# Altium footprint library XC7K160T.PcbLib: 72 footprints (part 5 of 5)
Each footprint in its own frame and in the unit in brackets; x right, y up, seen from the top. Pads: shape width x height; smd on the part's side, far side on the other; paste and mask are expansions set on the pad; w line width, h text height; cw(c..) or ccw(c..) is an arc to the next point about the centre after c.
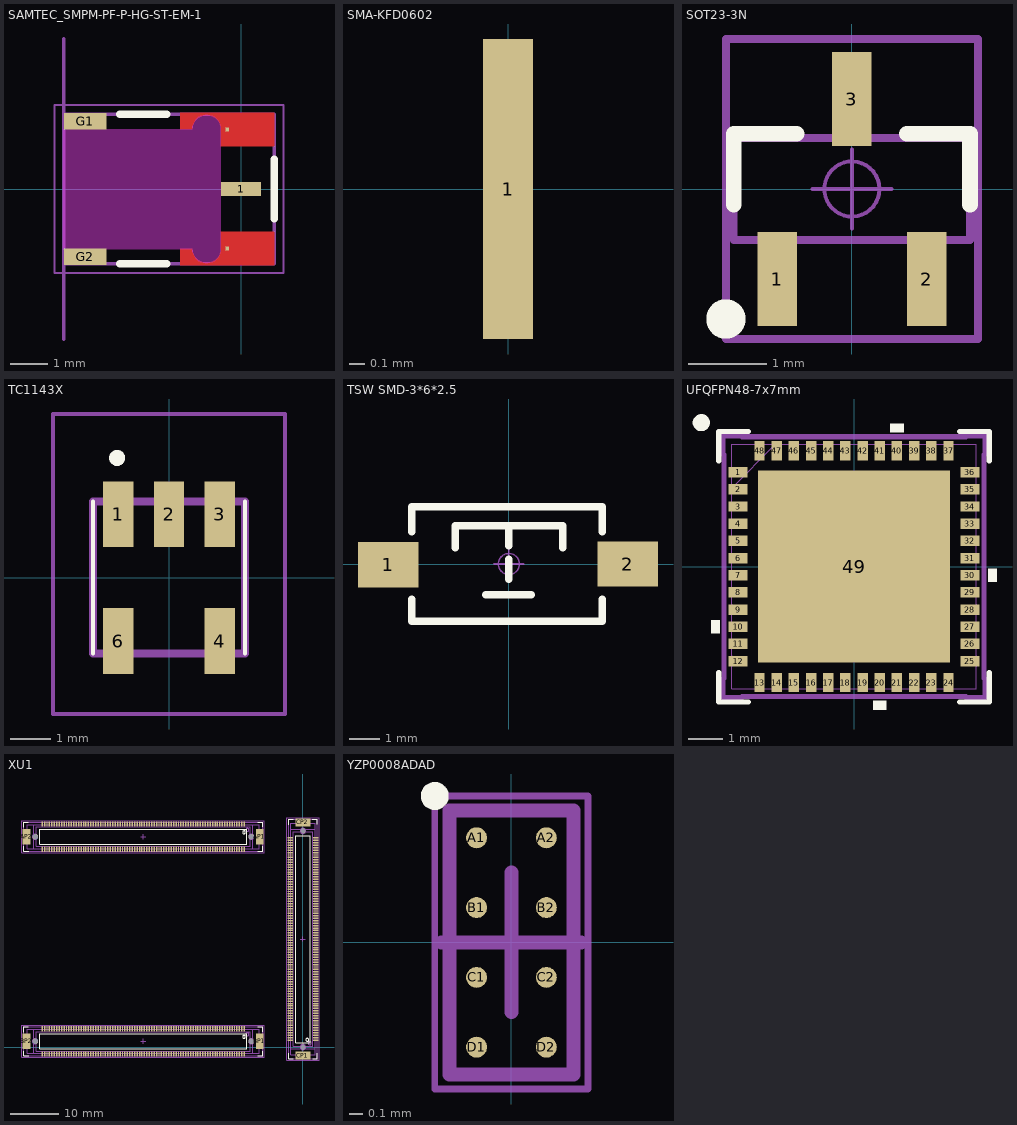
[diagram p4: the footprints below, top view; thin cyan lines are the x and y axes]

## SAMTEC_SMPM-PF-P-HG-ST-EM-1 [mm]
pads (5):
  rect 1.07x0.38 smd: 1(0,0)
  rect 1.14x0.44 smd: G1(-4.155,1.81) G2(-4.155,-1.81)
  rect 0.1x0.1 smd paste-1 mask+0: G3(-0.37,1.587) G4(-0.37,-1.587)
Top Layer:
  region: 0.885,-2.03 -1.625,-2.03 -1.625,-1.59 -1.295,-1.59 -1.294,-1.61 -1.293,-1.63 -1.29,-1.649 -1.287,-1.669 -1.282,-1.688 -1.276,-1.707 -1.27,-1.726 -1.262,-1.745 -1.254,-1.763 -1.244,-1.78 -1.234,-1.797 -1.222,-1.813 -1.21,-1.829 -1.197,-1.844 -1.184,-1.859 -1.169,-1.872 -1.154,-1.885 -1.138,-1.897 -1.122,-1.909 -1.105,-1.919 -1.088,-1.929 -1.07,-1.937 -1.051,-1.945 -1.032,-1.951 -1.013,-1.957 -0.994,-1.962 -0.974,-1.965 -0.955,-1.968 -0.935,-1.969 -0.915,-1.97 -0.895,-1.969 -0.875,-1.968 -0.856,-1.965 -0.836,-1.962 -0.817,-1.957 -0.798,-1.951 -0.779,-1.945 -0.76,-1.937 -0.742,-1.929 -0.725,-1.919 -0.708,-1.909 -0.692,-1.897 -0.676,-1.885 -0.661,-1.872 -0.646,-1.859 -0.633,-1.844 -0.62,-1.829 -0.608,-1.813 -0.596,-1.797 -0.586,-1.78 -0.576,-1.763 -0.568,-1.745 -0.56,-1.726 -0.554,-1.707 -0.548,-1.688 -0.543,-1.669 -0.54,-1.649 -0.537,-1.63 -0.536,-1.61 -0.535,-1.59 -0.535,-1.145 0.885,-1.145
  region: 0.885,1.145 -0.535,1.145 -0.535,1.59 -0.536,1.61 -0.537,1.63 -0.54,1.649 -0.543,1.669 -0.548,1.688 -0.554,1.707 -0.56,1.726 -0.568,1.745 -0.576,1.763 -0.586,1.78 -0.596,1.797 -0.608,1.813 -0.62,1.829 -0.633,1.844 -0.646,1.859 -0.661,1.872 -0.676,1.885 -0.692,1.897 -0.708,1.909 -0.725,1.919 -0.742,1.929 -0.76,1.937 -0.779,1.945 -0.798,1.951 -0.817,1.957 -0.836,1.962 -0.856,1.965 -0.875,1.968 -0.895,1.969 -0.915,1.97 -0.935,1.969 -0.955,1.968 -0.974,1.965 -0.994,1.962 -1.013,1.957 -1.032,1.951 -1.051,1.945 -1.07,1.937 -1.088,1.929 -1.105,1.919 -1.122,1.909 -1.138,1.897 -1.154,1.885 -1.169,1.872 -1.184,1.859 -1.197,1.844 -1.21,1.829 -1.222,1.813 -1.234,1.797 -1.244,1.78 -1.254,1.763 -1.262,1.745 -1.27,1.726 -1.276,1.707 -1.282,1.688 -1.287,1.669 -1.29,1.649 -1.293,1.63 -1.294,1.61 -1.295,1.59 -1.625,1.59 -1.625,2.03 0.885,2.03
Top Overlay:
  lines w0.2: -3.235,-1.995 -1.975,-1.995 ; -3.235,1.995 -1.975,1.995 ; 0.885,-0.795 0.885,0.795
Top Paste:
  region: 0.885,-2.03 -1.625,-2.03 -1.625,-1.59 -1.295,-1.59 -1.294,-1.61 -1.293,-1.63 -1.29,-1.649 -1.287,-1.669 -1.282,-1.688 -1.276,-1.707 -1.27,-1.726 -1.262,-1.745 -1.254,-1.763 -1.244,-1.78 -1.234,-1.797 -1.222,-1.813 -1.21,-1.829 -1.197,-1.844 -1.184,-1.859 -1.169,-1.872 -1.154,-1.885 -1.138,-1.897 -1.122,-1.909 -1.105,-1.919 -1.088,-1.929 -1.07,-1.937 -1.051,-1.945 -1.032,-1.951 -1.013,-1.957 -0.994,-1.962 -0.974,-1.965 -0.955,-1.968 -0.935,-1.969 -0.915,-1.97 -0.895,-1.969 -0.875,-1.968 -0.856,-1.965 -0.836,-1.962 -0.817,-1.957 -0.798,-1.951 -0.779,-1.945 -0.76,-1.937 -0.742,-1.929 -0.725,-1.919 -0.708,-1.909 -0.692,-1.897 -0.676,-1.885 -0.661,-1.872 -0.646,-1.859 -0.633,-1.844 -0.62,-1.829 -0.608,-1.813 -0.596,-1.797 -0.586,-1.78 -0.576,-1.763 -0.568,-1.745 -0.56,-1.726 -0.554,-1.707 -0.548,-1.688 -0.543,-1.669 -0.54,-1.649 -0.537,-1.63 -0.536,-1.61 -0.535,-1.59 -0.535,-1.145 0.885,-1.145
  region: 0.885,1.145 -0.535,1.145 -0.535,1.59 -0.536,1.61 -0.537,1.63 -0.54,1.649 -0.543,1.669 -0.548,1.688 -0.554,1.707 -0.56,1.726 -0.568,1.745 -0.576,1.763 -0.586,1.78 -0.596,1.797 -0.608,1.813 -0.62,1.829 -0.633,1.844 -0.646,1.859 -0.661,1.872 -0.676,1.885 -0.692,1.897 -0.708,1.909 -0.725,1.919 -0.742,1.929 -0.76,1.937 -0.779,1.945 -0.798,1.951 -0.817,1.957 -0.836,1.962 -0.856,1.965 -0.875,1.968 -0.895,1.969 -0.915,1.97 -0.935,1.969 -0.955,1.968 -0.974,1.965 -0.994,1.962 -1.013,1.957 -1.032,1.951 -1.051,1.945 -1.07,1.937 -1.088,1.929 -1.105,1.919 -1.122,1.909 -1.138,1.897 -1.154,1.885 -1.169,1.872 -1.184,1.859 -1.197,1.844 -1.21,1.829 -1.222,1.813 -1.234,1.797 -1.244,1.78 -1.254,1.763 -1.262,1.745 -1.27,1.726 -1.276,1.707 -1.282,1.688 -1.287,1.669 -1.29,1.649 -1.293,1.63 -1.294,1.61 -1.295,1.59 -1.625,1.59 -1.625,2.03 0.885,2.03
Top Solder:
  region: 0.985,-2.13 -1.725,-2.13 -1.725,-1.59 -1.295,-1.59 -1.294,-1.61 -1.293,-1.63 -1.29,-1.649 -1.287,-1.669 -1.282,-1.688 -1.276,-1.707 -1.27,-1.726 -1.262,-1.745 -1.254,-1.763 -1.244,-1.78 -1.234,-1.797 -1.222,-1.813 -1.21,-1.829 -1.197,-1.844 -1.184,-1.859 -1.169,-1.872 -1.154,-1.885 -1.138,-1.897 -1.122,-1.909 -1.105,-1.919 -1.088,-1.929 -1.07,-1.937 -1.051,-1.945 -1.032,-1.951 -1.013,-1.957 -0.994,-1.962 -0.974,-1.965 -0.955,-1.968 -0.935,-1.969 -0.915,-1.97 -0.895,-1.969 -0.875,-1.968 -0.856,-1.965 -0.836,-1.962 -0.817,-1.957 -0.798,-1.951 -0.779,-1.945 -0.76,-1.937 -0.742,-1.929 -0.725,-1.919 -0.708,-1.909 -0.692,-1.897 -0.676,-1.885 -0.661,-1.872 -0.646,-1.859 -0.633,-1.844 -0.62,-1.829 -0.608,-1.813 -0.596,-1.797 -0.586,-1.78 -0.576,-1.763 -0.568,-1.745 -0.56,-1.726 -0.554,-1.707 -0.548,-1.688 -0.543,-1.669 -0.54,-1.649 -0.537,-1.63 -0.536,-1.61 -0.535,-1.59 -0.535,-1.045 0.985,-1.045
  region: 0.985,1.045 -0.535,1.045 -0.535,1.59 -0.536,1.61 -0.537,1.63 -0.54,1.649 -0.543,1.669 -0.548,1.688 -0.554,1.707 -0.56,1.726 -0.568,1.745 -0.576,1.763 -0.586,1.78 -0.596,1.797 -0.608,1.813 -0.62,1.829 -0.633,1.844 -0.646,1.859 -0.661,1.872 -0.676,1.885 -0.692,1.897 -0.708,1.909 -0.725,1.919 -0.742,1.929 -0.76,1.937 -0.779,1.945 -0.798,1.951 -0.817,1.957 -0.836,1.962 -0.856,1.965 -0.875,1.968 -0.895,1.969 -0.915,1.97 -0.935,1.969 -0.955,1.968 -0.974,1.965 -0.994,1.962 -1.013,1.957 -1.032,1.951 -1.051,1.945 -1.07,1.937 -1.088,1.929 -1.105,1.919 -1.122,1.909 -1.138,1.897 -1.154,1.885 -1.169,1.872 -1.184,1.859 -1.197,1.844 -1.21,1.829 -1.222,1.813 -1.234,1.797 -1.244,1.78 -1.254,1.763 -1.262,1.745 -1.27,1.726 -1.276,1.707 -1.282,1.688 -1.287,1.669 -1.29,1.649 -1.293,1.63 -1.294,1.61 -1.295,1.59 -1.725,1.59 -1.725,2.13 0.985,2.13
Keep-Out Layer:
  board cut-out: -4.725,-1.59 -4.725,1.59 -1.295,1.59 -1.295,1.666 -1.237,1.805 -1.13,1.912 -0.991,1.97 -0.839,1.97 -0.7,1.912 -0.593,1.805 -0.535,1.666 -0.535,1.59 -0.535,-1.59 -0.535,-1.666 -0.593,-1.805 -0.7,-1.912 -0.839,-1.97 -0.991,-1.97 -1.13,-1.912 -1.237,-1.805 -1.295,-1.666 -1.295,-1.59
Keep-Out Layer:
  lines w0: -4.725,-1.59 -1.295,-1.59 ccw(c-0.915,-1.59) -0.535,-1.59 -0.535,1.59 ccw(c-0.915,1.59) -1.295,1.59 -4.725,1.59 -4.725,-1.59
Mechanical 13:
  lines w0.1: -4.725,-4 -4.725,-1.995 ; -4.725,4 -4.725,1.995 ; -4.725,-1.995 0.885,-1.995 0.885,1.995 -4.725,1.995 ; -4.725,-1.995 -4.725,1.995
Mechanical 15:
  lines w0.05: -4.975,-2.245 -4.975,2.245 1.135,2.245 1.135,-2.245 -4.975,-2.245
3D body "SMPM-PF-P-HG-ST-EM-1.stp": height 1.74, standoff -1.44, extent -4.728,-1.994 0.885,1.994

## SMA-KFD0602 [mm]
pads (1):
  rect 0.33x2 smd paste+0 mask+0: 1(0,0)

## SOT23-3N [mm]
pads (3):
  rect 0.5x1.2 smd: 1(-0.95,-1.143) 2(0.95,-1.143) 3(0,1.143)
Top Overlay:
  circle w0.25: c-1.6,-1.651 r0.125
  lines w0.2: -1.501,-0.2 -1.501,0.7 -0.701,0.7 ; 0.699,0.7 1.499,0.7 1.499,-0.2
Mechanical 13:
  lines w0.1: -1.5,-0.65 -1.5,0.65 1.5,0.65 1.5,-0.65 -1.5,-0.65
Mechanical 15:
  circle w0.05: c0,0 r0.35
  lines w0.05: -0.5,0 0.5,0 ; 0,-0.5 0,0.5
  lines w0.1: -1.6,-1.905 -1.6,1.905 1.6,1.905 1.6,-1.905 -1.6,-1.905
3D body "SOT23-3.STEP": height 1.05, standoff 0, extent -1.5,-1.2 1.5,1.2

## TC1143X [mm]
pads (5):
  rect 0.76x1.65 smd: 1(-1.27,1.59) 2(0,1.59) 3(1.27,1.59) 4(1.27,-1.59) 6(-1.27,-1.59)
Top Overlay:
  lines w0.1: -1.905,-1.905 -1.905,1.905 ; 1.905,-1.905 1.905,1.905
  lines w0.2: -1.4,3 ccw(c-1.3,3) -1.2,3 ccw(c-1.3,3) -1.4,3
Mechanical 13:
  lines w0.2: -1.905,-1.905 1.905,-1.905 1.905,1.905 -1.905,1.905 -1.905,-1.905
Mechanical 15:
  lines w0.1: -2.905,-3.415 2.905,-3.415 2.905,4.1 -2.905,4.1 -2.905,-3.415
3D body "TC1-1-43X+.stp": height 4.16, standoff 0, extent -1.905,-2.339 1.905,2.339

## TSW SMD-3*6*2.5 [mm]
pads (2):
  rect 2x1.5 smd: 1(-3.996,-0.02) 2(3.937,0)
Top Overlay:
  lines w0.254: -3.212,-1.168 -3.212,-1.9 3.088,-1.9 3.088,-1.168 ; -3.212,1.067 -3.212,1.9 3.088,1.9 3.088,1.067 ; -1.778,0.533 -1.778,1.27 1.778,1.27 1.778,0.533 ; -0.762,-1.016 0.737,-1.016 ; 0,-0.508 0,0.152 ; 0,0.61 0,1.27
Mechanical 15:
  circle w0.05: c0,0 r0.35
  lines w0.05: -0.5,0 0.5,0 ; 0,-0.5 0,0.5
3D body "TSW SMD-3x6x2.5.STEP": height 2.59, standoff -0.03, extent -4,-1.877 4,1.623

## UFQFPN48-7x7mm [mil]
pads (49):
  rect 22x12 smd: 1(-132.87,108.3) 2(-132.87,88.61) 3(-132.87,68.92) 4(-132.87,49.23) 5(-132.87,29.54) 6(-132.87,9.85) 7(-132.87,-9.85) 8(-132.87,-29.54) 9(-132.87,-49.23) 10(-132.87,-68.92) 11(-132.87,-88.61) 12(-132.87,-108.3) 25(132.87,-108.3) 26(132.87,-88.61) 27(132.87,-68.92) 28(132.87,-49.23) 29(132.87,-29.54) 30(132.87,-9.85) 31(132.87,9.85) 32(132.87,29.54) 33(132.87,49.23) 34(132.87,68.92) 35(132.87,88.6) 36(132.87,108.3)
  rect 12x22 smd: 13(-108.3,-132.87) 14(-88.6,-132.87) 15(-68.92,-132.87) 16(-49.23,-132.87) 17(-29.54,-132.87) 18(-9.85,-132.87) 19(9.85,-132.87) 20(29.54,-132.87) 21(49.23,-132.87) 22(68.92,-132.87) 23(88.61,-132.87) 24(108.3,-132.87) 37(108.3,132.87) 38(88.61,132.87) 39(68.92,132.87) 40(49.23,132.87) 41(29.54,132.87) 42(9.85,132.87) 43(-9.85,132.87) 44(-29.54,132.87) 45(-49.23,132.87) 46(-68.92,132.87) 47(-88.61,132.87) 48(-108.3,132.87)
  rect 220x220 smd paste-110: 49(0,0)
Top Overlay:
  circle w9.84: c-175,165 r4.92
  region: -153.87,-61.42 -163.87,-61.42 -163.87,-76.41 -153.87,-76.41
  region: 37.03,-153.87 22.03,-153.87 22.04,-163.87 37.04,-163.87
  region: 153.87,-2.34 163.87,-2.34 163.87,-17.34 153.87,-17.34
  region: 56.73,153.87 41.73,153.87 41.73,163.87 56.73,163.87
  lines w6: -155,-121.21 -155,-155 -121.21,-155 ; -155,121.21 -155,155 -121.21,155 ; 121.21,-155 155,-155 155,-121.21 ; 121.21,155 155,155 155,121.21
Top Paste:
  drawing of 64 lines, arcs and shapes, not listed
Top Solder:
  drawing of 48 lines, arcs and shapes, not listed
Mechanical 13:
  lines w1: -140,90 -90,140 ; -140,-140 140,-140 140,140 -140,140 -140,-140 ; -140,-114.29 -140,-102.29 -140,-114.29 ; -140,-94.61 -140,-82.6 -140,-94.61 ; -140,-74.92 -140,-62.91 -140,-74.92 ; -140,-55.23 -140,-43.22 -140,-55.23 ; -140,-35.53 -140,-23.53 -140,-35.53 ; -140,-15.85 -140,-3.85 -140,-15.85 ; -140,3.84 -140,15.85 -140,3.84 ; -140,23.54 -140,35.53 -140,23.54 ; -140,43.22 -140,55.23 -140,43.22 ; -140,62.91 -140,74.92 -140,62.91 ; -140,82.61 -140,94.6 -140,82.61 ; -140,102.29 -140,114.3 -140,102.29 ; -114.3,-140 -102.29,-140 -114.3,-140 ; -114.3,140 -102.29,140 -114.3,140 ; -94.6,-140 -82.61,-140 -94.6,-140 ; -94.6,140 -82.61,140 -94.6,140 ; -74.92,-140 -62.91,-140 -74.92,-140 ; -74.92,140 -62.91,140 -74.92,140 ; -55.23,-140 -43.22,-140 -55.23,-140 ; -55.23,140 -43.22,140 -55.23,140 ; -35.53,-140 -23.54,-140 -35.53,-140 ; -35.53,140 -23.54,140 -35.53,140 ; -15.85,-140 -3.85,-140 -15.85,-140 ; -15.85,140 -3.85,140 -15.85,140 ; 3.85,-140 15.85,-140 3.85,-140 ; 3.85,140 15.85,140 3.85,140 ; 23.54,-140 35.53,-140 23.54,-140 ; 23.54,140 35.53,140 23.54,140 ; 43.22,-140 55.23,-140 43.22,-140 ; 43.22,140 55.23,140 43.22,140 ; 62.91,-140 74.92,-140 62.91,-140 ; 62.91,140 74.92,140 62.91,140 ; 82.61,-140 94.61,-140 82.61,-140 ; 82.61,140 94.61,140 82.61,140 ; 102.29,-140 114.3,-140 102.29,-140 ; 102.29,140 114.3,140 102.29,140 ; 140,-114.29 140,-102.29 140,-114.29 ; 140,-94.61 140,-82.6 140,-94.61 ; 140,-74.92 140,-62.91 140,-74.92 ; 140,-55.23 140,-43.22 140,-55.23 ; 140,-35.53 140,-23.53 140,-35.53 ; 140,-15.85 140,-3.85 140,-15.85 ; 140,3.84 140,15.85 140,3.84 ; 140,23.54 140,35.53 140,23.54 ; 140,43.22 140,55.23 140,43.22 ; 140,62.91 140,74.92 140,62.91 ; 140,82.61 140,94.6 140,82.61 ; 140,102.29 140,114.3 140,102.29
  text "*" at -124.37,93.14 h50
Mechanical 15:
  lines w6: -150,-150 -150,-128.3 -148.87,-128.3 -148.87,128.29 -150,128.29 -150,150 -128.29,150 -128.29,148.87 128.3,148.87 128.3,150 150,150 150,128.29 148.87,128.29 148.87,-128.3 150,-128.3 150,-150 128.29,-150 128.29,-148.87 -128.29,-148.87 -128.29,-150 -150,-150
3D body: height 35.43, standoff 0, extent -137.8,-137.8 137.8,137.8

## XU1 [mm]
pads (516):
  rect 0.3x1.1 smd paste+0.02: A1(-12.05,45.8) A2(-12.05,40.6) A3(-12.55,45.8) A4(-12.55,40.6) A5(-13.05,45.8) A6(-13.05,40.6) A7(-13.55,45.8) A8(-13.55,40.6) A9(-14.05,45.8) A10(-14.05,40.6) A11(-14.55,45.8) A12(-14.55,40.6) A13(-15.05,45.8) A14(-15.05,40.6) A15(-15.55,45.8) A16(-15.55,40.6) A17(-16.05,45.8) A18(-16.05,40.6) A19(-16.55,45.8) A20(-16.55,40.6) A21(-17.05,45.8) A22(-17.05,40.6) A23(-17.55,45.8) A24(-17.55,40.6) A25(-18.05,45.8) A26(-18.05,40.6) A27(-18.55,45.8) A28(-18.55,40.6) A29(-19.05,45.8) A30(-19.05,40.6) A31(-19.55,45.8) A32(-19.55,40.6) A33(-20.05,45.8) A34(-20.05,40.6) A35(-20.55,45.8) A36(-20.55,40.6) A37(-21.05,45.8) A38(-21.05,40.6) A39(-21.55,45.8) A40(-21.55,40.6) A41(-22.05,45.8) A42(-22.05,40.6) A43(-22.55,45.8) A44(-22.55,40.6) A45(-23.05,45.8) A46(-23.05,40.6) A47(-23.55,45.8) A48(-23.55,40.6) A49(-24.05,45.8) A50(-24.05,40.6) A51(-24.55,45.8) A52(-24.55,40.6) A53(-25.05,45.8) A54(-25.05,40.6) A55(-25.55,45.8) A56(-25.55,40.6) A57(-26.05,45.8) A58(-26.05,40.6) A59(-26.55,45.8) A60(-26.55,40.6) A61(-27.05,45.8) A62(-27.05,40.6) A63(-27.55,45.8) A64(-27.55,40.6) A65(-28.05,45.8) A66(-28.05,40.6) A67(-28.55,45.8) A68(-28.55,40.6) A69(-29.05,45.8) A70(-29.05,40.6) A71(-29.55,45.8) A72(-29.55,40.6) A73(-30.05,45.8) A74(-30.05,40.6) A75(-30.55,45.8) A76(-30.55,40.6) A77(-31.05,45.8) A78(-31.05,40.6) A79(-31.55,45.8) A80(-31.55,40.6) A81(-32.05,45.8) A82(-32.05,40.6) A83(-32.55,45.8) A84(-32.55,40.6) A85(-33.05,45.8) A86(-33.05,40.6) A87(-33.55,45.8) A88(-33.55,40.6) A89(-34.05,45.8) A90(-34.05,40.6) A91(-34.55,45.8) A92(-34.55,40.6) A93(-35.05,45.8) A94(-35.05,40.6) A95(-35.55,45.8) A96(-35.55,40.6) A97(-36.05,45.8) A98(-36.05,40.6) A99(-36.55,45.8) A100(-36.55,40.6) A101(-37.05,45.8) A102(-37.05,40.6) A103(-37.55,45.8) A104(-37.55,40.6) A105(-38.05,45.8) A106(-38.05,40.6) A107(-38.55,45.8) A108(-38.55,40.6) A109(-39.05,45.8) A110(-39.05,40.6) A111(-39.55,45.8) A112(-39.55,40.6) A113(-40.05,45.8) A114(-40.05,40.6) A115(-40.55,45.8) A116(-40.55,40.6) A117(-41.05,45.8) A118(-41.05,40.6) A119(-41.55,45.8) A120(-41.55,40.6) A121(-42.05,45.8) A122(-42.05,40.6) A123(-42.55,45.8) A124(-42.55,40.6) A125(-43.05,45.8) A126(-43.05,40.6) A127(-43.55,45.8) A128(-43.55,40.6) A129(-44.05,45.8) A130(-44.05,40.6) A131(-44.55,45.8) A132(-44.55,40.6) A133(-45.05,45.8) A134(-45.05,40.6) A135(-45.55,45.8) A136(-45.55,40.6) A137(-46.05,45.8) A138(-46.05,40.6) A139(-46.55,45.8) A140(-46.55,40.6) A141(-47.05,45.8) A142(-47.05,40.6) A143(-47.55,45.8) A144(-47.55,40.6) A145(-48.05,45.8) A146(-48.05,40.6) A147(-48.55,45.8) A148(-48.55,40.6) A149(-49.05,45.8) A150(-49.05,40.6) A151(-49.55,45.8) A152(-49.55,40.6) A153(-50.05,45.8) A154(-50.05,40.6) A155(-50.55,45.8) A156(-50.55,40.6) A157(-51.05,45.8) A158(-51.05,40.6) A159(-51.55,45.8) A160(-51.55,40.6) A161(-52.05,45.8) A162(-52.05,40.6) A163(-52.55,45.8) A164(-52.55,40.6) A165(-53.05,45.8) A166(-53.05,40.6) A167(-53.55,45.8) A168(-53.55,40.6) B1(-12.05,3.8) B2(-12.05,-1.4) B3(-12.55,3.8) B4(-12.55,-1.4) B5(-13.05,3.8) B6(-13.05,-1.4) B7(-13.55,3.8) B8(-13.55,-1.4) B9(-14.05,3.8) B10(-14.05,-1.4) B11(-14.55,3.8) B12(-14.55,-1.4) B13(-15.05,3.8) B14(-15.05,-1.4) B15(-15.55,3.8) B16(-15.55,-1.4) B17(-16.05,3.8) B18(-16.05,-1.4) B19(-16.55,3.8) B20(-16.55,-1.4) B21(-17.05,3.8) B22(-17.05,-1.4) B23(-17.55,3.8) B24(-17.55,-1.4) B25(-18.05,3.8) B26(-18.05,-1.4) B27(-18.55,3.8) B28(-18.55,-1.4) B29(-19.05,3.8) B30(-19.05,-1.4) B31(-19.55,3.8) B32(-19.55,-1.4) B33(-20.05,3.8) B34(-20.05,-1.4) B35(-20.55,3.8) B36(-20.55,-1.4) B37(-21.05,3.8) B38(-21.05,-1.4) B39(-21.55,3.8) B40(-21.55,-1.4) B41(-22.05,3.8) B42(-22.05,-1.4) B43(-22.55,3.8) B44(-22.55,-1.4) B45(-23.05,3.8) B46(-23.05,-1.4) B47(-23.55,3.8) B48(-23.55,-1.4) B49(-24.05,3.8) B50(-24.05,-1.4) B51(-24.55,3.8) B52(-24.55,-1.4) B53(-25.05,3.8) B54(-25.05,-1.4) B55(-25.55,3.8) B56(-25.55,-1.4) B57(-26.05,3.8) B58(-26.05,-1.4) B59(-26.55,3.8) B60(-26.55,-1.4) B61(-27.05,3.8) B62(-27.05,-1.4) B63(-27.55,3.8) B64(-27.55,-1.4) B65(-28.05,3.8) B66(-28.05,-1.4) B67(-28.55,3.8) B68(-28.55,-1.4) B69(-29.05,3.8) B70(-29.05,-1.4) B71(-29.55,3.8) B72(-29.55,-1.4) B73(-30.05,3.8) B74(-30.05,-1.4) B75(-30.55,3.8) B76(-30.55,-1.4) B77(-31.05,3.8) B78(-31.05,-1.4) B79(-31.55,3.8) B80(-31.55,-1.4) B81(-32.05,3.8) B82(-32.05,-1.4) B83(-32.55,3.8) B84(-32.55,-1.4) B85(-33.05,3.8) B86(-33.05,-1.4) B87(-33.55,3.8) B88(-33.55,-1.4) B89(-34.05,3.8) B90(-34.05,-1.4) B91(-34.55,3.8) B92(-34.55,-1.4) B93(-35.05,3.8) B94(-35.05,-1.4) B95(-35.55,3.8) B96(-35.55,-1.4) B97(-36.05,3.8) B98(-36.05,-1.4) B99(-36.55,3.8) B100(-36.55,-1.4) B101(-37.05,3.8) B102(-37.05,-1.4) B103(-37.55,3.8) B104(-37.55,-1.4) B105(-38.05,3.8) B106(-38.05,-1.4) B107(-38.55,3.8) B108(-38.55,-1.4) B109(-39.05,3.8) B110(-39.05,-1.4) B111(-39.55,3.8) B112(-39.55,-1.4) B113(-40.05,3.8) B114(-40.05,-1.4) B115(-40.55,3.8) B116(-40.55,-1.4) B117(-41.05,3.8) B118(-41.05,-1.4) B119(-41.55,3.8) B120(-41.55,-1.4) B121(-42.05,3.8) B122(-42.05,-1.4) B123(-42.55,3.8) B124(-42.55,-1.4) B125(-43.05,3.8) B126(-43.05,-1.4) B127(-43.55,3.8) B128(-43.55,-1.4) B129(-44.05,3.8) B130(-44.05,-1.4) B131(-44.55,3.8) B132(-44.55,-1.4) B133(-45.05,3.8) B134(-45.05,-1.4) B135(-45.55,3.8) B136(-45.55,-1.4) B137(-46.05,3.8) B138(-46.05,-1.4) B139(-46.55,3.8) B140(-46.55,-1.4) B141(-47.05,3.8) B142(-47.05,-1.4) B143(-47.55,3.8) B144(-47.55,-1.4) B145(-48.05,3.8) B146(-48.05,-1.4) B147(-48.55,3.8) B148(-48.55,-1.4) B149(-49.05,3.8) B150(-49.05,-1.4) B151(-49.55,3.8) B152(-49.55,-1.4) B153(-50.05,3.8) B154(-50.05,-1.4) B155(-50.55,3.8) B156(-50.55,-1.4) B157(-51.05,3.8) B158(-51.05,-1.4) B159(-51.55,3.8) B160(-51.55,-1.4) B161(-52.05,3.8) B162(-52.05,-1.4) B163(-52.55,3.8) B164(-52.55,-1.4) B165(-53.05,3.8) B166(-53.05,-1.4) B167(-53.55,3.8) B168(-53.55,-1.4)
  rect 1.6x3.1 smd: AP1(-8.85,43.2) AP2(-56.75,43.2) BP1(-8.85,1.2) BP2(-56.75,1.2)
  rect 1.1x0.3 smd paste+0.02: C1(2.6,1.45) C2(-2.6,1.45) C3(2.6,1.95) C4(-2.6,1.95) C5(2.6,2.45) C6(-2.6,2.45) C7(2.6,2.95) C8(-2.6,2.95) C9(2.6,3.45) C10(-2.6,3.45) C11(2.6,3.95) C12(-2.6,3.95) C13(2.6,4.45) C14(-2.6,4.45) C15(2.6,4.95) C16(-2.6,4.95) C17(2.6,5.45) C18(-2.6,5.45) C19(2.6,5.95) C20(-2.6,5.95) C21(2.6,6.45) C22(-2.6,6.45) C23(2.6,6.95) C24(-2.6,6.95) C25(2.6,7.45) C26(-2.6,7.45) C27(2.6,7.95) C28(-2.6,7.95) C29(2.6,8.45) C30(-2.6,8.45) C31(2.6,8.95) C32(-2.6,8.95) C33(2.6,9.45) C34(-2.6,9.45) C35(2.6,9.95) C36(-2.6,9.95) C37(2.6,10.45) C38(-2.6,10.45) C39(2.6,10.95) C40(-2.6,10.95) C41(2.6,11.45) C42(-2.6,11.45) C43(2.6,11.95) C44(-2.6,11.95) C45(2.6,12.45) C46(-2.6,12.45) C47(2.6,12.95) C48(-2.6,12.95) C49(2.6,13.45) C50(-2.6,13.45) C51(2.6,13.95) C52(-2.6,13.95) C53(2.6,14.45) C54(-2.6,14.45) C55(2.6,14.95) C56(-2.6,14.95) C57(2.6,15.45) C58(-2.6,15.45) C59(2.6,15.95) C60(-2.6,15.95) C61(2.6,16.45) C62(-2.6,16.45) C63(2.6,16.95) C64(-2.6,16.95) C65(2.6,17.45) C66(-2.6,17.45) C67(2.6,17.95) C68(-2.6,17.95) C69(2.6,18.45) C70(-2.6,18.45) C71(2.6,18.95) C72(-2.6,18.95) C73(2.6,19.45) C74(-2.6,19.45) C75(2.6,19.95) C76(-2.6,19.95) C77(2.6,20.45) C78(-2.6,20.45) C79(2.6,20.95) C80(-2.6,20.95) C81(2.6,21.45) C82(-2.6,21.45) C83(2.6,21.95) C84(-2.6,21.95) C85(2.6,22.45) C86(-2.6,22.45) C87(2.6,22.95) C88(-2.6,22.95) C89(2.6,23.45) C90(-2.6,23.45) C91(2.6,23.95) C92(-2.6,23.95) C93(2.6,24.45) C94(-2.6,24.45) C95(2.6,24.95) C96(-2.6,24.95) C97(2.6,25.45) C98(-2.6,25.45) C99(2.6,25.95) C100(-2.6,25.95) C101(2.6,26.45) C102(-2.6,26.45) C103(2.6,26.95) C104(-2.6,26.95) C105(2.6,27.45) C106(-2.6,27.45) C107(2.6,27.95) C108(-2.6,27.95) C109(2.6,28.45) C110(-2.6,28.45) C111(2.6,28.95) C112(-2.6,28.95) C113(2.6,29.45) C114(-2.6,29.45) C115(2.6,29.95) C116(-2.6,29.95) C117(2.6,30.45) C118(-2.6,30.45) C119(2.6,30.95) C120(-2.6,30.95) C121(2.6,31.45) C122(-2.6,31.45) C123(2.6,31.95) C124(-2.6,31.95) C125(2.6,32.45) C126(-2.6,32.45) C127(2.6,32.95) C128(-2.6,32.95) C129(2.6,33.45) C130(-2.6,33.45) C131(2.6,33.95) C132(-2.6,33.95) C133(2.6,34.45) C134(-2.6,34.45) C135(2.6,34.95) C136(-2.6,34.95) C137(2.6,35.45) C138(-2.6,35.45) C139(2.6,35.95) C140(-2.6,35.95) C141(2.6,36.45) C142(-2.6,36.45) C143(2.6,36.95) C144(-2.6,36.95) C145(2.6,37.45) C146(-2.6,37.45) C147(2.6,37.95) C148(-2.6,37.95) C149(2.6,38.45) C150(-2.6,38.45) C151(2.6,38.95) C152(-2.6,38.95) C153(2.6,39.45) C154(-2.6,39.45) C155(2.6,39.95) C156(-2.6,39.95) C157(2.6,40.45) C158(-2.6,40.45) C159(2.6,40.95) C160(-2.6,40.95) C161(2.6,41.45) C162(-2.6,41.45) C163(2.6,41.95) C164(-2.6,41.95) C165(2.6,42.45) C166(-2.6,42.45) C167(2.6,42.95) C168(-2.6,42.95)
  rect 3.1x1.6 smd: CP1(0,-1.75) CP2(0,46.15)
  round 0 hole 1.1 unplated mask+0: D1(-10.6,1.2) D1(-10.6,43.2) D1(0,0) D2(-55,1.2) D2(-55,43.2) D2(0,44.4)
Top Overlay:
  circle w0.1: c-12.1,44.1 r0.3
  circle w0.1: c-12.1,2.1 r0.3
  circle w0.1: c0.9,1.5 r0.3
  lines w0.1: -54,-0.3 -11.5,-0.3 -11.5,2.7 -54,2.7 -54,-0.3 ; -54,41.7 -11.5,41.7 -11.5,44.7 -54,44.7 -54,41.7 ; -1.5,0.9 1.5,0.9 1.5,43.4 -1.5,43.4 -1.5,0.9
  lines w0.2: -57.35,-0.8 -57.35,-1.75 -56.3,-1.75 ; -57.35,3.1 -57.35,4.15 -56.4,4.15 ; -57.35,41.2 -57.35,40.25 -56.3,40.25 ; -57.35,45.1 -57.35,46.15 -56.4,46.15 ; -9.3,-1.75 -8.25,-1.75 -8.25,-0.8 ; -9.3,4.15 -8.25,4.15 -8.25,3.2 ; -9.3,40.25 -8.25,40.25 -8.25,41.2 ; -9.3,46.15 -8.25,46.15 -8.25,45.2 ; -2.95,-1.3 -2.95,-2.35 -2,-2.35 ; -2.95,45.7 -2.95,46.75 -2,46.75 ; 1.9,46.75 2.95,46.75 2.95,45.8 ; 2,-2.35 2.95,-2.35 2.95,-1.3
Top Courtyard:
  circle w0.1: c0,0 r0.55
  circle w0.1: c1.4,0.8 r0.316
  circle w0.1: c0,44.4 r0.55
  circle w0.1: c-10.6,43.2 r0.55
  circle w0.1: c-11.4,44.6 r0.316
  circle w0.1: c-11.4,2.6 r0.316
  circle w0.1: c-55,43.2 r0.55
  circle w0.1: c-10.6,1.2 r0.55
  circle w0.1: c-55,1.2 r0.55
  lines w0.01: -33.3,1.2 -32.8,1.2 ; -33.3,43.2 -32.8,43.2 ; -32.8,0.7 -32.8,1.2 ; -32.8,1.7 -32.8,1.2 ; -32.8,42.7 -32.8,43.2 ; -32.8,43.7 -32.8,43.2 ; -32.3,1.2 -32.8,1.2 ; -32.3,43.2 -32.8,43.2 ; -0.5,22.2 0,22.2 ; 0,21.7 0,22.2 ; 0,22.7 0,22.2 ; 0.5,22.2 0,22.2
  lines w0.1: -55.3,-1.3 -10.3,-1.3 ; -55.3,-1.3 -56.6,-1.3 -56.6,3.7 -55.3,3.7 ; -55.3,-1.3 -55.3,3.7 ; -55.3,-1.3 -55.3,3.7 ; -55.3,3.7 -10.3,3.7 ; -55.3,40.7 -10.3,40.7 ; -55.3,40.7 -55.3,45.7 ; -55.3,40.7 -55.3,45.7 ; -55.3,40.7 -56.6,40.7 -56.6,45.7 -55.3,45.7 ; -55.3,45.7 -10.3,45.7 ; -10.3,-1.3 -8.995,-1.3 -8.995,3.7 -10.3,3.7 ; -10.3,-1.3 -10.3,3.7 ; -10.3,-1.3 -10.3,3.7 ; -10.3,40.7 -8.995,40.7 -8.995,45.7 -10.3,45.7 ; -10.3,40.7 -10.3,45.7 ; -10.3,40.7 -10.3,45.7 ; -2.5,-0.3 2.5,-0.3 ; -2.5,-0.3 -2.5,-1.605 2.5,-1.605 2.5,-0.3 ; -2.5,-0.3 2.5,-0.3 ; -2.5,-0.3 -2.5,44.7 ; -2.5,44.7 2.5,44.7 ; -2.5,44.7 2.5,44.7 ; -2.5,44.7 -2.5,46 2.5,46 2.5,44.7 ; 2.5,-0.3 2.5,44.7 ; -57.35,-1.75 -8.25,-1.75 -8.25,4.15 -57.35,4.15 -57.35,-1.75 ; -57.35,40.25 -8.25,40.25 -8.25,46.15 -57.35,46.15 -57.35,40.25 ; -54.8,-0.8 -10.8,-0.8 -10.8,3.2 -54.8,3.2 -54.8,-0.8 ; -54.8,41.2 -10.8,41.2 -10.8,45.2 -54.8,45.2 -54.8,41.2 ; -2.95,-2.35 2.95,-2.35 2.95,46.75 -2.95,46.75 -2.95,-2.35 ; -2,0.2 2,0.2 2,44.2 -2,44.2 -2,0.2
Mechanical 12:
  circle w0.1: c1.4,0.8 r0.3
  circle w0.1: c-11.4,44.6 r0.3
  circle w0.1: c-11.4,2.6 r0.3
  lines w0.1: -55.3,-1.3 -10.3,-1.3 ; -55.3,-1.3 -56.6,-1.3 -56.6,3.7 -55.3,3.7 ; -55.3,-1.3 -55.3,3.7 ; -55.3,-1.3 -55.3,3.7 ; -55.3,3.7 -10.3,3.7 ; -55.3,40.7 -55.3,45.7 ; -55.3,40.7 -55.3,45.7 ; -55.3,40.7 -56.6,40.7 -56.6,45.7 -55.3,45.7 ; -55.3,40.7 -10.3,40.7 ; -55.3,45.7 -10.3,45.7 ; -10.3,-1.3 -9,-1.3 -9,3.7 -10.3,3.7 ; -10.3,-1.3 -10.3,3.7 ; -10.3,-1.3 -10.3,3.7 ; -10.3,40.7 -9,40.7 -9,45.7 -10.3,45.7 ; -10.3,40.7 -10.3,45.7 ; -10.3,40.7 -10.3,45.7 ; -2.5,-0.3 2.5,-0.3 ; -2.5,-0.3 -2.5,-1.6 2.5,-1.6 2.5,-0.3 ; -2.5,-0.3 2.5,-0.3 ; -2.5,-0.3 -2.5,44.7 ; -2.5,44.7 2.5,44.7 ; -2.5,44.7 2.5,44.7 ; -2.5,44.7 -2.5,46 2.5,46 2.5,44.7 ; 2.5,-0.3 2.5,44.7 ; -57.35,-1.75 -8.25,-1.75 -8.25,4.15 -57.35,4.15 -57.35,-1.75 ; -57.35,40.25 -57.35,46.15 -8.25,46.15 -8.25,40.25 -57.35,40.25 ; -54.8,-0.8 -10.8,-0.8 -10.8,3.2 -54.8,3.2 -54.8,-0.8 ; -54.8,41.2 -54.8,45.2 -10.8,45.2 -10.8,41.2 -54.8,41.2 ; -2.95,-2.35 2.95,-2.35 2.95,46.75 -2.95,46.75 -2.95,-2.35 ; -2,0.2 2,0.2 2,44.2 -2,44.2 -2,0.2
  text ".Designator" at -33.142,1.02 h0.61
  text ".Designator" at 0.125,21.425 h0.61
  text ".Designator" at -33.142,43.02 h0.61
Mechanical 15:
  lines w0.01: -33.3,1.2 -32.8,1.2 ; -33.3,43.2 -32.8,43.2 ; -32.8,0.7 -32.8,1.2 ; -32.8,1.7 -32.8,1.2 ; -32.8,42.7 -32.8,43.2 ; -32.8,43.7 -32.8,43.2 ; -32.3,1.2 -32.8,1.2 ; -32.3,43.2 -32.8,43.2 ; -0.5,22.2 0,22.2 ; 0,21.7 0,22.2 ; 0,22.7 0,22.2 ; 0.5,22.2 0,22.2 ; -57.699,-2.099 -7.901,-2.099 -7.901,4.499 -57.699,4.499 -57.699,-2.099 ; -57.699,39.901 -7.901,39.901 -7.901,46.499 -57.699,46.499 -57.699,39.901 ; -3.299,-2.699 3.299,-2.699 3.299,47.099 -3.299,47.099 -3.299,-2.699
3D body "ME-XU1-C_3D_Model_V1.step": height 9.04, standoff 0.78, extent -69.6,-4.8 4.2,49.2
3D body "Hirose Male FX10A-168P-SV.stp": height 3.51, standoff -0.59, extent -57.35,-1.75 -8.25,4.15
3D body "Hirose Male FX10A-168P-SV.stp": height 3.51, standoff -0.59, extent -57.35,40.25 -8.25,46.15
3D body "Hirose Male FX10A-168P-SV.stp": height 3.51, standoff -0.59, extent -2.95,-2.35 2.95,46.75

## YZP0008ADAD [mm]
pads (8):
  round 0.15 smd: A1(-0.25,0.75) A2(0.25,0.75) B1(-0.25,0.25) B2(0.25,0.25) C1(-0.25,-0.25) C2(0.25,-0.25) D1(-0.25,-0.75) D2(0.25,-0.75)
Top Overlay:
  circle w0.1: c-0.55,1.05 r0.05
Mechanical 13:
  lines w0.1: -0.445,-0.945 -0.445,0.945 0.445,0.945 0.445,-0.945 -0.445,-0.945
Mechanical 15:
  lines w0.05: -0.55,-1.05 -0.55,1.05 0.55,1.05 0.55,-1.05 -0.55,-1.05
  lines w0.1: -0.5,0 0.5,0 ; 0,-0.5 0,0.5
3D body: height 0.5, standoff 0.15, extent -0.445,-0.945 0.445,0.945